# Altium footprint library VCN1L.PcbLib: 29 footprints (part 1 of 2)
Each footprint in its own frame and in the unit in brackets; x right, y up, seen from the top. Pads: shape width x height; smd on the part's side, far side on the other; paste and mask are expansions set on the pad; w line width, h text height; cw(c..) or ccw(c..) is an arc to the next point about the centre after c.
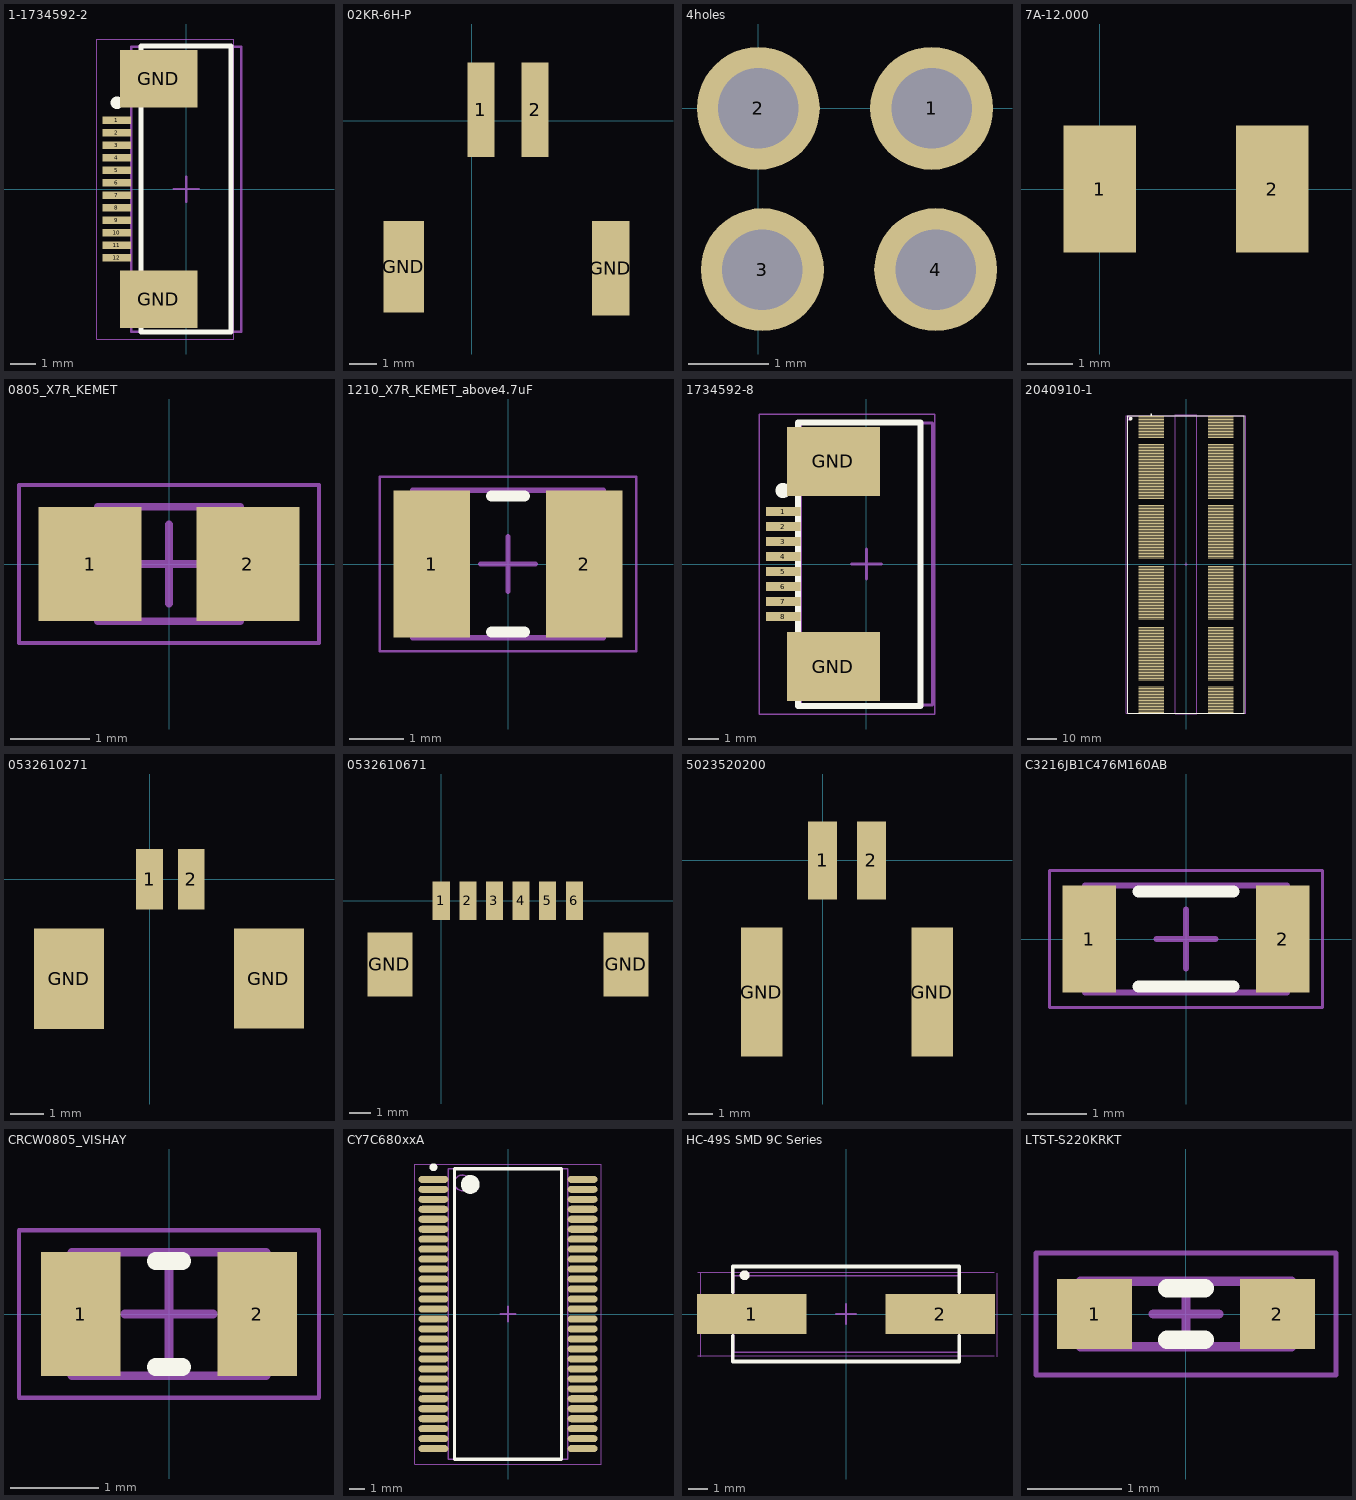
[diagram p0: the footprints below, top view; thin cyan lines are the x and y axes]

## 1-1734592-2 [mm] "FPC-style ribbon connector"
height 2
pads (14):
  rect 1.15x0.3 smd: 1(-2.775,2.75) 2(-2.775,2.25) 3(-2.775,1.75) 4(-2.775,1.25) 5(-2.775,0.75) 6(-2.775,0.25) 7(-2.775,-0.25) 8(-2.775,-0.75) 9(-2.775,-1.25) 10(-2.775,-1.75) 11(-2.775,-2.25) 12(-2.775,-2.75)
  rect 3.1x2.3 smd: GND(-1.1,4.42) GND(-1.1,-4.42)
Top Overlay:
  circle w0.25: c-2.775,3.45 r0.125
  circle w0.6: c-0.8,4.725 r0.3
  lines w0.2: -1.8,-5.725 -1.8,5.725 1.8,5.725 1.8,-5.725 -1.8,-5.725
Mechanical 13:
  circle w0.1: c-1.3,4.8 r0.5
  lines w0.1: -2.2,-5.7 -2.2,5.7 2.2,5.7 2.2,-5.7 -2.2,-5.7
Mechanical 15:
  lines w0.05: -3.575,-6 -3.575,6 1.905,6 1.905,-6 -3.575,-6
  lines w0.1: -0.5,0 0.5,0 ; 0,-0.5 0,0.5
3D body "c-1-1734592-2-c-3d.stp": height 2, standoff -0.05, extent -2.936,-5.715 2.174,5.715

## 02KR-6H-P [mm] "2 Position Rectangular Socket Connector IDC Tin 26 AWG"
height 5.5
pads (4):
  rect 1x3.5 smd: 1(0.35,0.4) 2(2.35,0.4)
  rect 1.5x3.4 smd: GND(-2.5,-5.4)
  rect 1.4x3.5 smd: GND(5.15,-5.45)
3D body: height 5.5, standoff 0, extent -3.15,-7.025 5.75,1.95

## 4holes [mm]
pads (4):
  round 1.524 hole 1: 1(2.15,0) 2(0,0) 3(0.05,-2) 4(2.2,-2)

## 7A-12.000 [mm]
pads (2):
  rect 1.6x2.8 smd: 1(0,0) 2(3.8,0)
3D body "User Library-Crystal TXC 7A Series.SLDPRT": height 1.25, standoff 0, extent -0.65,-1.65 4.35,1.55

## 0805_X7R_KEMET [mm]
height 0.88
pads (2):
  rect 1.3x1.45 smd: 1(-1,0) 2(1,0)
Mechanical 13:
  lines w0.1: -0.9,-0.725 -0.9,0.725 0.9,0.725 0.9,-0.725 -0.9,-0.725
Mechanical 15:
  lines w0.05: -1.9,-1 -1.9,1 1.9,1 1.9,-1 -1.9,-1
  lines w0.1: -0.5,0 0.5,0 ; 0,-0.5 0,0.5
3D body "C0805C104K5RACTU.step": height 0.88, standoff 0, extent -0.9,-0.725 0.9,0.725

## 1210_X7R_KEMET_above4.7uF [mm]
height 2.8
pads (2):
  rect 1.4x2.7 smd: 1(-1.4,0) 2(1.4,0)
Top Overlay:
  lines w0.2: -0.3,-1.25 0.3,-1.25 ; -0.3,1.25 0.3,1.25
Mechanical 13:
  lines w0.1: -1.75,-1.35 -1.75,1.35 1.75,1.35 1.75,-1.35 -1.75,-1.35
Mechanical 15:
  lines w0.05: -2.35,-1.6 -2.35,1.6 2.35,1.6 2.35,-1.6 -2.35,-1.6
  lines w0.1: -0.5,0 0.5,0 ; 0,-0.5 0,0.5
3D body "1210_X7R_KEMET_above4.7uF.step": height 2.8, standoff 0, extent -1.75,-1.35 1.75,1.35

## 1734592-8 [mm]
height 2
pads (10):
  rect 1.15x0.3 smd: 1(-2.775,1.75) 2(-2.775,1.25) 3(-2.775,0.75) 4(-2.775,0.25) 5(-2.775,-0.25) 6(-2.775,-0.75) 7(-2.775,-1.25) 8(-2.775,-1.75)
  rect 3.1x2.3 smd: GND(-1.1,-3.42) GND(-1.1,3.42)
Top Overlay:
  circle w0.25: c-2.775,2.45 r0.125
  circle w0.6: c-0.8,3.725 r0.3
  lines w0.2: -2.286,-4.725 -2.286,4.725 1.8,4.725 1.8,-4.725 -2.286,-4.725
Mechanical 13:
  circle w0.1: c-1.3,3.8 r0.5
  lines w0.1: -2.2,-4.7 -2.2,4.7 2.2,4.7 2.2,-4.7 -2.2,-4.7
Mechanical 15:
  lines w0.05: -3.575,-5 -3.575,5 2.286,5 2.286,-5 -3.575,-5
  lines w0.1: -0.5,0 0.5,0 ; 0,-0.5 0,0.5
3D body "c-1734592-8-c-3d.stp": height 2, standoff -0.05, extent -3.068,-4.715 2.042,4.715

## 2040910-1 [mm]
height 10
pads (400):
  rect 0x0.3 smd: 1(-11.65,49.75) 2(-11.65,49.25) 3(-11.65,48.75) 4(-11.65,48.25) 5(-11.65,47.75) 6(-11.65,47.25) 7(-11.65,46.75) 8(-11.65,46.25) 9(-11.65,45.75) 10(-11.65,45.25) 11(-11.65,44.75) 12(-11.65,44.25) 13(-11.65,43.75) 14(-11.65,43.25) 15(-11.65,42.75) 16(-11.65,42.25) 17(-11.65,41.75) 18(-11.65,41.25) 19(-11.65,40.75) 20(-11.65,40.25) 21(-11.65,39.75) 22(-11.65,39.25) 23(-11.65,38.75) 24(-11.65,38.25) 25(-11.65,37.75) 26(-11.65,37.25) 27(-11.65,36.75) 28(-11.65,36.25) 29(-11.65,35.75) 30(-11.65,35.25) 31(-11.65,34.75) 32(-11.65,34.25) 33(-11.65,33.75) 34(-11.65,33.25) 35(-11.65,32.75) 36(-11.65,32.25) 37(-11.65,31.75) 38(-11.65,31.25) 39(-11.65,30.75) 40(-11.65,30.25) 41(-11.65,29.75) 42(-11.65,29.25) 43(-11.65,28.75) 44(-11.65,28.25) 45(-11.65,27.75) 46(-11.65,27.25) 47(-11.65,26.75) 48(-11.65,26.25) 49(-11.65,25.75) 50(-11.65,25.25) 51(-11.65,24.75) 52(-11.65,24.25) 53(-11.65,23.75) 54(-11.65,23.25) 55(-11.65,22.75) 56(-11.65,22.25) 57(-11.65,21.75) 58(-11.65,21.25) 59(-11.65,20.75) 60(-11.65,20.25) 61(-11.65,19.75) 62(-11.65,19.25) 63(-11.65,18.75) 64(-11.65,18.25) 65(-11.65,17.75) 66(-11.65,17.25) 67(-11.65,16.75) 68(-11.65,16.25) 69(-11.65,15.75) 70(-11.65,15.25) 71(-11.65,14.75) 72(-11.65,14.25) 73(-11.65,13.75) 74(-11.65,13.25) 75(-11.65,12.75) 76(-11.65,12.25) 77(-11.65,11.75) 78(-11.65,11.25) 79(-11.65,10.75) 80(-11.65,10.25) 81(-11.65,9.75) 82(-11.65,9.25) 83(-11.65,8.75) 84(-11.65,8.25) 85(-11.65,7.75) 86(-11.65,7.25) 87(-11.65,6.75) 88(-11.65,6.25) 89(-11.65,5.75) 90(-11.65,5.25) 91(-11.65,4.75) 92(-11.65,4.25) 93(-11.65,3.75) 94(-11.65,3.25) 95(-11.65,2.75) 96(-11.65,2.25) 97(-11.65,1.75) 98(-11.65,1.25) 99(-11.65,0.75) 100(-11.65,0.25) 101(-11.65,-0.25) 102(-11.65,-0.75) 103(-11.65,-1.25) 104(-11.65,-1.75) 105(-11.65,-2.25) 106(-11.65,-2.75) 107(-11.65,-3.25) 108(-11.65,-3.75) 109(-11.65,-4.25) 110(-11.65,-4.75) 111(-11.65,-5.25) 112(-11.65,-5.75) 113(-11.65,-6.25) 114(-11.65,-6.75) 115(-11.65,-7.25) 116(-11.65,-7.75) 117(-11.65,-8.25) 118(-11.65,-8.75) 119(-11.65,-9.25) 120(-11.65,-9.75) 121(-11.65,-10.25) 122(-11.65,-10.75) 123(-11.65,-11.25) 124(-11.65,-11.75) 125(-11.65,-12.25) 126(-11.65,-12.75) 127(-11.65,-13.25) 128(-11.65,-13.75) 129(-11.65,-14.25) 130(-11.65,-14.75) 131(-11.65,-15.25) 132(-11.65,-15.75) 133(-11.65,-16.25) 134(-11.65,-16.75) 135(-11.65,-17.25) 136(-11.65,-17.75) 137(-11.65,-18.25) 138(-11.65,-18.75) 139(-11.65,-19.25) 140(-11.65,-19.75) 141(-11.65,-20.25) 142(-11.65,-20.75) 143(-11.65,-21.25) 144(-11.65,-21.75) 145(-11.65,-22.25) 146(-11.65,-22.75) 147(-11.65,-23.25) 148(-11.65,-23.75) 149(-11.65,-24.25) 150(-11.65,-24.75) 151(-11.65,-25.25) 152(-11.65,-25.75) 153(-11.65,-26.25) 154(-11.65,-26.75) 155(-11.65,-27.25) 156(-11.65,-27.75) 157(-11.65,-28.25) 158(-11.65,-28.75) 159(-11.65,-29.25) 160(-11.65,-29.75) 161(-11.65,-30.25) 162(-11.65,-30.75) 163(-11.65,-31.25) 164(-11.65,-31.75) 165(-11.65,-32.25) 166(-11.65,-32.75) 167(-11.65,-33.25) 168(-11.65,-33.75) 169(-11.65,-34.25) 170(-11.65,-34.75) 171(-11.65,-35.25) 172(-11.65,-35.75) 173(-11.65,-36.25) 174(-11.65,-36.75) 175(-11.65,-37.25) 176(-11.65,-37.75) 177(-11.65,-38.25) 178(-11.65,-38.75) 179(-11.65,-39.25) 180(-11.65,-39.75) 181(-11.65,-40.25) 182(-11.65,-40.75) 183(-11.65,-41.25) 184(-11.65,-41.75) 185(-11.65,-42.25) 186(-11.65,-42.75) 187(-11.65,-43.25) 188(-11.65,-43.75) 189(-11.65,-44.25) 190(-11.65,-44.75) 191(-11.65,-45.25) 192(-11.65,-45.75) 193(-11.65,-46.25) 194(-11.65,-46.75) 195(-11.65,-47.25) 196(-11.65,-47.75) 197(-11.65,-48.25) 198(-11.65,-48.75) 199(-11.65,-49.25) 200(-11.65,-49.75) 201(11.65,-49.75) 202(11.65,-49.25) 203(11.65,-48.75) 204(11.65,-48.25) 205(11.65,-47.75) 206(11.65,-47.25) 207(11.65,-46.75) 208(11.65,-46.25) 209(11.65,-45.75) 210(11.65,-45.25) 211(11.65,-44.75) 212(11.65,-44.25) 213(11.65,-43.75) 214(11.65,-43.25) 215(11.65,-42.75) 216(11.65,-42.25) 217(11.65,-41.75) 218(11.65,-41.25) 219(11.65,-40.75) 220(11.65,-40.25) 221(11.65,-39.75) 222(11.65,-39.25) 223(11.65,-38.75) 224(11.65,-38.25) 225(11.65,-37.75) 226(11.65,-37.25) 227(11.65,-36.75) 228(11.65,-36.25) 229(11.65,-35.75) 230(11.65,-35.25) 231(11.65,-34.75) 232(11.65,-34.25) 233(11.65,-33.75) 234(11.65,-33.25) 235(11.65,-32.75) 236(11.65,-32.25) 237(11.65,-31.75) 238(11.65,-31.25) 239(11.65,-30.75) 240(11.65,-30.25) 241(11.65,-29.75) 242(11.65,-29.25) 243(11.65,-28.75) 244(11.65,-28.25) 245(11.65,-27.75) 246(11.65,-27.25) 247(11.65,-26.75) 248(11.65,-26.25) 249(11.65,-25.75) 250(11.65,-25.25) 251(11.65,-24.75) 252(11.65,-24.25) 253(11.65,-23.75) 254(11.65,-23.25) 255(11.65,-22.75) 256(11.65,-22.25) 257(11.65,-21.75) 258(11.65,-21.25) 259(11.65,-20.75) 260(11.65,-20.25) 261(11.65,-19.75) 262(11.65,-19.25) 263(11.65,-18.75) 264(11.65,-18.25) 265(11.65,-17.75) 266(11.65,-17.25) 267(11.65,-16.75) 268(11.65,-16.25) 269(11.65,-15.75) 270(11.65,-15.25) 271(11.65,-14.75) 272(11.65,-14.25) 273(11.65,-13.75) 274(11.65,-13.25) 275(11.65,-12.75) 276(11.65,-12.25) 277(11.65,-11.75) 278(11.65,-11.25) 279(11.65,-10.75) 280(11.65,-10.25) 281(11.65,-9.75) 282(11.65,-9.25) 283(11.65,-8.75) 284(11.65,-8.25) 285(11.65,-7.75) 286(11.65,-7.25) 287(11.65,-6.75) 288(11.65,-6.25) 289(11.65,-5.75) 290(11.65,-5.25) 291(11.65,-4.75) 292(11.65,-4.25) 293(11.65,-3.75) 294(11.65,-3.25) 295(11.65,-2.75) 296(11.65,-2.25) 297(11.65,-1.75) 298(11.65,-1.25) 299(11.65,-0.75) 300(11.65,-0.25) 301(11.65,0.25) 302(11.65,0.75) 303(11.65,1.25) 304(11.65,1.75) 305(11.65,2.25) 306(11.65,2.75) 307(11.65,3.25) 308(11.65,3.75) 309(11.65,4.25) 310(11.65,4.75) 311(11.65,5.25) 312(11.65,5.75) 313(11.65,6.25) 314(11.65,6.75) 315(11.65,7.25) 316(11.65,7.75) 317(11.65,8.25) 318(11.65,8.75) 319(11.65,9.25) 320(11.65,9.75) 321(11.65,10.25) 322(11.65,10.75) 323(11.65,11.25) 324(11.65,11.75) 325(11.65,12.25) 326(11.65,12.75) 327(11.65,13.25) 328(11.65,13.75) 329(11.65,14.25) 330(11.65,14.75) 331(11.65,15.25) 332(11.65,15.75) 333(11.65,16.25) 334(11.65,16.75) 335(11.65,17.25) 336(11.65,17.75) 337(11.65,18.25) 338(11.65,18.75) 339(11.65,19.25) 340(11.65,19.75) 341(11.65,20.25) 342(11.65,20.75) 343(11.65,21.25) 344(11.65,21.75) 345(11.65,22.25) 346(11.65,22.75) 347(11.65,23.25) 348(11.65,23.75) 349(11.65,24.25) 350(11.65,24.75) 351(11.65,25.25) 352(11.65,25.75) 353(11.65,26.25) 354(11.65,26.75) 355(11.65,27.25) 356(11.65,27.75) 357(11.65,28.25) 358(11.65,28.75) 359(11.65,29.25) 360(11.65,29.75) 361(11.65,30.25) 362(11.65,30.75) 363(11.65,31.25) 364(11.65,31.75) 365(11.65,32.25) 366(11.65,32.75) 367(11.65,33.25) 368(11.65,33.75) 369(11.65,34.25) 370(11.65,34.75) 371(11.65,35.25) 372(11.65,35.75) 373(11.65,36.25) 374(11.65,36.75) 375(11.65,37.25) 376(11.65,37.75) 377(11.65,38.25) 378(11.65,38.75) 379(11.65,39.25) 380(11.65,39.75) 381(11.65,40.25) 382(11.65,40.75) 383(11.65,41.25) 384(11.65,41.75) 385(11.65,42.25) 386(11.65,42.75) 387(11.65,43.25) 388(11.65,43.75) 389(11.65,44.25) 390(11.65,44.75) 391(11.65,45.25) 392(11.65,45.75) 393(11.65,46.25) 394(11.65,46.75) 395(11.65,47.25) 396(11.65,47.75) 397(11.65,48.25) 398(11.65,48.75) 399(11.65,49.25) 400(11.65,49.75)
Top Overlay:
  circle w0.25: c-11.65,50.45 r0.125
  circle w0.6: c-18.6,49 r0.3
  lines w0.2: -19.6,-50 -19.6,50 19.6,50 19.6,-50 -19.6,-50
Mechanical 13:
  circle w0.1: c-19.1,49.1 r0.5
  lines w0.1: -20,-50 -20,50 20,50 20,-50 -20,-50
Mechanical 15:
  lines w0.05: -3.575,-50.25 -3.575,50.25 3.575,50.25 3.575,-50.25 -3.575,-50.25
  lines w0.1: -0.5,0 0.5,0 ; 0,-0.5 0,0.5
3D body "c-2040910-1-d-3d.stp": height 6.2, standoff -2.2, extent -20.573,-39.795 -4.573,40.005

## 0532610271 [mm]
pads (4):
  rect 0.8x1.8 smd: 1(0,0) 2(1.25,0)
  rect 2.1x3 smd: GND(-2.41,-2.98) GND(3.575,-2.975)
3D body "532610271.stp": height 3.35, standoff -0.05, extent -3.225,-4.975 4.425,0.225

## 0532610671 [mm]
pads (8):
  rect 0.8x1.8 smd: 1(0,0) 2(1.25,0) 3(2.5,0) 4(3.75,0) 5(5,0) 6(6.25,0)
  rect 2.1x3 smd: GND(-2.41,-2.98) GND(8.68,-2.98)
3D body "532610671.stp": height 3.4, standoff 0, extent -3.205,-4.54 9.445,0.66

## 5023520200 [mm]
pads (4):
  rect 1.2x3.2 smd: 1(0,0) 2(2,0)
  rect 1.7x5.3 smd: GND(-2.5,-5.4) GND(4.5,-5.4)
3D body "5023520200.stp": height 6.46, standoff 0.06, extent -3,-8.4 5,1

## C3216JB1C476M160AB [mm]
height 1.8
pads (2):
  rect 0.9x1.8 smd: 1(-1.625,0) 2(1.625,0)
Top Overlay:
  lines w0.2: -0.8,-0.8 0.8,-0.8 ; -0.8,0.8 0.8,0.8
Mechanical 13:
  lines w0.1: -1.7,-0.9 1.7,-0.9 1.7,0.9 -1.7,0.9 -1.7,-0.9
Mechanical 15:
  lines w0.05: -2.3,-1.15 2.3,-1.15 2.3,1.15 -2.3,1.15 -2.3,-1.15
  lines w0.1: -0.5,0 0.5,0 ; 0,-0.5 0,0.5
3D body "C3216JB1C476M160AB.step": height 1.8, standoff 0, extent -1.7,-0.9 1.7,0.9

## CRCW0805_VISHAY [mm]
height 0.5
pads (2):
  rect 0.9x1.4 smd: 1(-1,0) 2(1,0)
Top Overlay:
  lines w0.2: -0.15,-0.6 0.15,-0.6 ; -0.15,0.6 0.15,0.6
Mechanical 13:
  lines w0.1: -1.1,-0.7 -1.1,0.7 1.1,0.7 1.1,-0.7 -1.1,-0.7
Mechanical 15:
  lines w0.05: -1.7,-0.95 -1.7,0.95 1.7,0.95 1.7,-0.95 -1.7,-0.95
  lines w0.1: -0.5,0 0.5,0 ; 0,-0.5 0,0.5
3D body "CRCW0805_VISHAY.step": height 0.5, standoff 0, extent -1.1,-0.7 1.1,0.7

## CY7C680xxA [mm]
height 2.8
pads (56):
  oval 1.9x0.45 smd: 1(-4.75,8.572) 2(-4.75,7.938) 3(-4.75,7.302) 4(-4.75,6.667) 5(-4.75,6.032) 6(-4.75,5.397) 7(-4.75,4.763) 8(-4.75,4.127) 9(-4.75,3.492) 10(-4.75,2.857) 11(-4.75,2.222) 12(-4.75,1.587) 13(-4.75,0.953) 14(-4.75,0.318) 15(-4.75,-0.318) 16(-4.75,-0.953) 17(-4.75,-1.587) 18(-4.75,-2.222) 19(-4.75,-2.857) 20(-4.75,-3.492) 21(-4.75,-4.127) 22(-4.75,-4.763) 23(-4.75,-5.397) 24(-4.75,-6.032) 25(-4.75,-6.667) 26(-4.75,-7.302) 27(-4.75,-7.938) 28(-4.75,-8.572) 29(4.75,-8.572) 30(4.75,-7.938) 31(4.75,-7.302) 32(4.75,-6.667) 33(4.75,-6.032) 34(4.75,-5.397) 35(4.75,-4.763) 36(4.75,-4.127) 37(4.75,-3.492) 38(4.75,-2.857) 39(4.75,-2.222) 40(4.75,-1.587) 41(4.75,-0.953) 42(4.75,-0.318) 43(4.75,0.318) 44(4.75,0.953) 45(4.75,1.587) 46(4.75,2.222) 47(4.75,2.857) 48(4.75,3.492) 49(4.75,4.127) 50(4.75,4.763) 51(4.75,5.397) 52(4.75,6.032) 53(4.75,6.667) 54(4.75,7.302) 55(4.75,7.938) 56(4.75,8.572)
Top Overlay:
  circle w0.25: c-4.75,9.347 r0.125
  circle w0.6: c-2.4,8.25 r0.3
  lines w0.2: -3.4,-9.25 -3.4,9.25 3.4,9.25 3.4,-9.25 -3.4,-9.25
Mechanical 13:
  circle w0.1: c-2.9,8.35 r0.5
  lines w0.1: -3.8,-9.25 -3.8,9.25 3.8,9.25 3.8,-9.25 -3.8,-9.25
Mechanical 15:
  lines w0.05: -5.95,-9.55 -5.95,9.55 5.95,9.55 5.95,-9.55 -5.95,-9.55
  lines w0.1: -0.5,0 0.5,0 ; 0,-0.5 0,0.5
3D body "CY7C680xxA.step": height 2.79, standoff 0, extent -5.175,-9.25 5.175,9.25

## HC-49S SMD 9C Series [mm]
height 4.1
pads (2):
  rect 5.5x2 smd: 1(-4.75,0) 2(4.75,0)
Top Overlay:
  circle w0.25: c-5.1,1.95 r0.125
  lines w0.2: -5.7,-1.1 -5.7,-2.4 5.7,-2.4 5.7,-1.1 ; -5.7,1.1 -5.7,2.4 5.7,2.4 5.7,1.1
Mechanical 13:
  lines w0.1: -5.675,-1.925 -5.675,1.925 5.675,1.925 5.675,-1.925 -5.675,-1.925
Mechanical 15:
  lines w0.05: -7.45,-2.1 7.45,-2.1 ; -7.45,2.1 7.45,2.1 ; -7.3,-2.15 -7.3,2.05 ; 7.6,-2.15 7.6,2.05
  lines w0.1: -0.5,0 0.5,0 ; 0,-0.5 0,0.5
3D body "HC-49S SMD 9C Series.step": height 4.1, standoff 0, extent -6.2,-1.925 6.5,1.925

## LTST-S220KRKT [mm]
height 1.1
pads (2):
  rect 0.8x0.75 smd: 1(-0.975,0) 2(0.975,0)
Top Overlay:
  lines w0.2: -0.2,-0.275 0.2,-0.275 ; -0.2,0.275 0.2,0.275
Mechanical 13:
  lines w0.1: -1.125,-0.35 1.125,-0.35 1.125,0.35 -1.125,0.35 -1.125,-0.35
Mechanical 15:
  lines w0.05: -1.6,-0.65 1.6,-0.65 1.6,0.65 -1.6,0.65 -1.6,-0.65
  lines w0.1: -0.35,0 0.35,0 ; 0,-0.35 0,0.35
3D body "LTST-S220KRKT.step": height 1.1, standoff 0, extent -1.125,-0.35 1.125,0.35